# EAGLE library part 74*112 (library IDP_library)
Dual J-K negative edge triggered FLIP FLOP, preset and clear
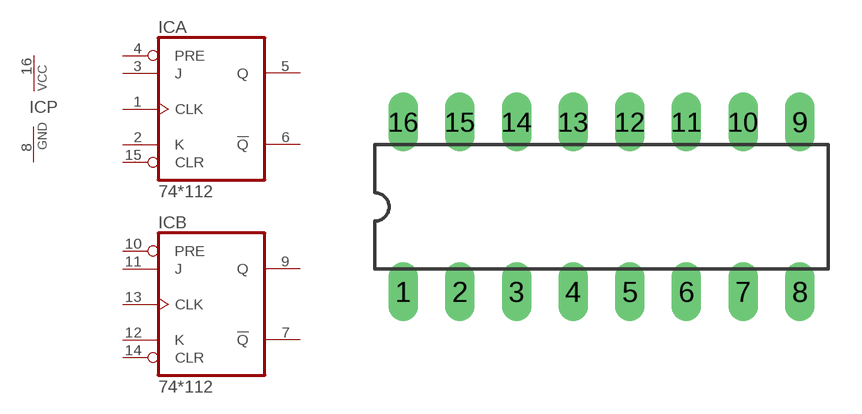
[diagram p4: symbol with the pads of DIL16; footprint DIL16]

Designator prefix IC; gates A=74112 B=74112 P=PWRN-2

## 74112N  [DIL16]
1  A:CLK  in
2  A:K  in
3  A:J  in
4  A:PRE  in
5  A:Q  out
6  A:!Q  out
7  B:!Q  out
8  P:GND  pwr
9  B:Q  out
10  B:PRE  in
11  B:J  in
12  B:K  in
13  B:CLK  in
14  B:CLR  in
15  A:CLR  in
16  P:VCC  pwr

## Footprint DIL16 (pad centres in mm)
Dual In Line
drill 0.813 long: 1 -8.89,-3.81; 2 -6.35,-3.81; 3 -3.81,-3.81; 4 -1.27,-3.81; 5 1.27,-3.81; 6 3.81,-3.81; 7 6.35,-3.81; 8 8.89,-3.81; 9 8.89,3.81; 10 6.35,3.81; 11 3.81,3.81; 12 1.27,3.81; 13 -1.27,3.81; 14 -3.81,3.81; 15 -6.35,3.81; 16 -8.89,3.81